# Altium footprint library 贴片-DIP转换.PcbLib: 1 footprints
Each footprint in its own frame and in the unit in brackets; x right, y up, seen from the top. Pads: shape width x height; smd on the part's side, far side on the other; paste and mask are expansions set on the pad; w line width, h text height; cw(c..) or ccw(c..) is an arc to the next point about the centre after c.
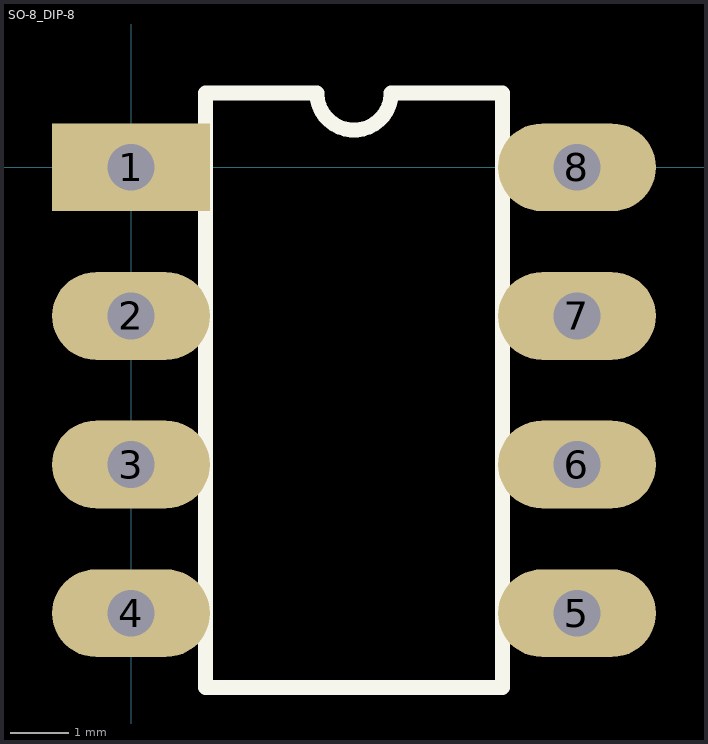
[diagram p0: the footprint, top view; thin cyan lines are the x and y axes]

## SO-8_DIP-8 [mm]
pads (8):
  rect 2.7x1.5 hole 0.8: 1(0,0)
  oval 2.7x1.5 hole 0.8: 2(0,-2.54) 3(0,-5.08) 4(0,-7.62) 5(7.62,-7.62) 6(7.62,-5.08) 7(7.62,-2.54) 8(7.62,0)
TopOverlay:
  lines w0.254: 1.27,-8.89 6.35,-8.89 6.35,1.27 4.445,1.27 cw(c3.81,1.27) 3.175,1.27 1.27,1.27 1.27,-8.89